# Altium schematic symbol library SCH - POWER - SUPPLY - TMA2405D.SchLib: 1 symbol
Pins are listed as number, name and electrical type; pins without a type are passive.

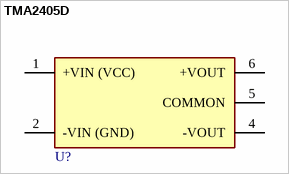
[diagram p0: symbol TMA2405D]

## TMA2405D
designator U?
pins: 1 +VIN (VCC) (power), 2 -VIN (GND) (power), 4 -VOUT (power), 5 COMMON, 6 +VOUT (power)